# Altium schematic symbol library LT1990.Schlib: 1 symbol
Pins are listed as number, name and electrical type; pins without a type are passive.

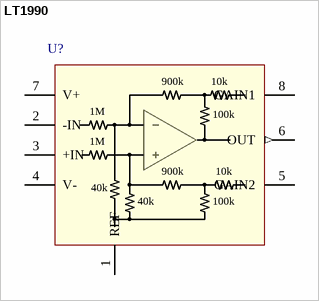
[diagram p0: symbol LT1990]

## LT1990
designator U?  (value not drawn)
High Voltage Diff Amp
pins: 1 REF, 2 -IN, 3 +IN, 4 V- (power), 5 GAIN2, 6 OUT (out), 7 V+ (power), 8 GAIN1
text: 900k; 10k; 1M; 100k; 40k